# Altium schematic symbol library NCV5661MN33T2G.SchLib: 1 symbol
Pins are listed as number, name and electrical type; pins without a type are passive.

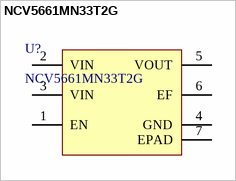
[diagram p0: symbol NCV5661MN33T2G]

## NCV5661MN33T2G
designator U?
LDO Regulator Pos 3.3V 1A Automotive 6-Pin DFN EP T/R; Manufacturer: ON Semiconductor; Dropout Voltage: 1V; Max Input Voltage: 9V; Min Input Voltage: 2V; Number of Outputs: 1; Reference Voltage: 900mV; Polarity: Positive; Quiescent Current: 3mA; Accuracy: 1%; Output Type: Fixed; Manufacturer Part Number: NCV5661MN33T2G; RoHS: Yes; Category: Voltage Regulators - Linear; Stock 1: 95; Pricing 1: 1=1.01000, 10=0.90100, 25=0.85520, 100=0.70240, 250=0.65656, 500=0.58024, 1000=0.50418 (USD); Mount: Surface Mount; Case/Package: DFN; Number of Pins: 6; Min Operating Temperature: -40°C; Max Operating Temperature: 150°C; Package Quantity: 3000; Output Voltage: 3.3V; Output Current: 1A; Packaging: Tape and Reel; Max Output Current: 1A; Number of Regulators: 1; Output Voltage Accuracy: 1%; Series: Automotive, AEC-Q100; Length: 3.3mm; Width: 3mm; Height: 0.85mm; Radiation Hardening: No; Lead Free: Lead Free; Halogen Free: Halogen Free; RoHS Compliant: Yes; ComponentLink1URL: https://datasheet.ciiva.com/2062/ncp5661-d-2062579.pdf?src-supplier=Digi-Key; ComponentLink1Description: https://datasheet.ciiva.com/2062/ncp5661-d-2062579.pdf?src-supplier=Digi-Key; Supplier 1: Mouser; Supplier Part Number 1: 863-NCV5661MN33T2G
footprint SON95P330X100_HS-7M (SON, 6-Leads, Body 3.00x3.30mm, Pitch 0.95mm, Thermal Pad 2.00x1.20mm, IPC Low Density)
footprint SON95P330X100_HS-7N (SON, 6-Leads, Body 3.00x3.30mm, Pitch 0.95mm, Thermal Pad 2.00x1.20mm, IPC Medium Density)
pins: 1 EN, 2 VIN (power), 3 VIN (power), 4 GND (power), 5 VOUT (power), 6 EF, 7 EPAD (power)